# Altium schematic symbol library BMS.SchLib: 12 symbols
Pins are listed as number, name and electrical type; pins without a type are passive.

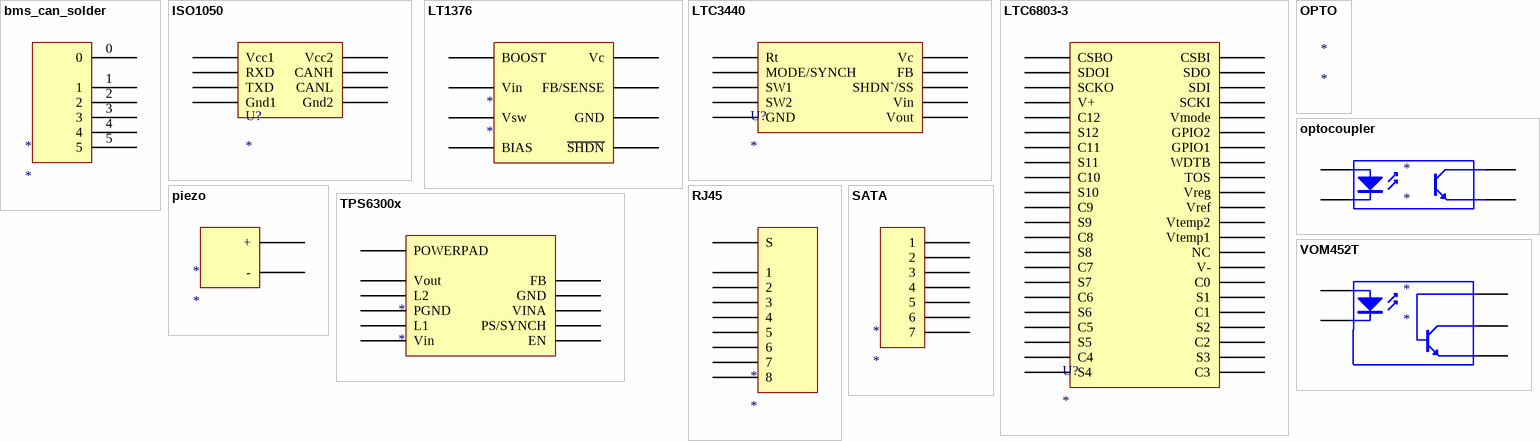
[diagram p0: symbols bms_can_solder to VOM452T]

## bms_can_solder
designator *
footprint pcb_bcan_soldertabs
pins: 0, 1, 2, 3, 4, 5

## ISO1050
designator U?
footprint SO8
pins: 1 Vcc1, 2 RXD, 3 TXD, 4 Gnd1, 5 Gnd2, 6 CANL, 7 CANH, 8 Vcc2

## LT1376
designator *
footprint SO8
pins: 1 BOOST, 2 Vin, 3 Vsw, 4 BIAS, 5 ~{SHDN}, 6 GND, 7 FB/SENSE, 8 Vc

## LTC3440
designator U?
footprint MSOP10
pins: 1 Rt, 2 MODE/SYNCH, 3 SW1, 4 SW2, 5 GND, 6 Vout, 7 Vin, 8 SHDN`/SS, 9 FB, 10 Vc

## LTC6803-3
designator U?
footprint SOP44
pins: 1 CSBO, 2 SDOI, 3 SCKO, 4 V+, 5 C12, 6 S12, 7 C11, 8 S11, 9 C10, 10 S10, 11 C9, 12 S9, 13 C8, 14 S8, 15 C7, 16 S7, 17 C6, 18 S6, 19 C5, 20 S5, 21 C4, 22 S4, 23 C3, 24 S3, 25 C2, 26 S2, 27 C1, 28 S1, 29 C0, 30 V-, 31 NC, 32 Vtemp1, 33 Vtemp2, 34 Vref, 35 Vreg, 36 TOS, 37 WDTB, 38 GPIO1, 39 GPIO2, 40 Vmode, 41 SCKI, 42 SDI, 43 SDO, 44 CSBI

## OPTO
designator *

## optocoupler
designator *
pins: 1 A, 3 K, 4 E, 6 C

## piezo
designator *
footprint piezo
pins: 1 +, 2 -

## RJ45
designator *
footprint RJ45
pins: 0 S, 1, 2, 3, 4, 5, 6, 7, 8

## SATA
designator *
footprint 47080-4005-SATA
pins: 1, 2, 3, 4, 5, 6, 7

## TPS6300x
designator *
pins: 0 POWERPAD, 1 Vout, 2 L2, 3 PGND, 4 L1, 5 Vin, 6 EN, 7 PS/SYNCH, 8 VINA, 9 GND, 10 FB

## VOM452T
designator *
pins: 1 A, 3 K, 4 E, 5 C, 6 C